# Altium footprint library TRS3122.PcbLib: 1 footprints
Each footprint in its own frame and in the unit in brackets; x right, y up, seen from the top. Pads: shape width x height; smd on the part's side, far side on the other; paste and mask are expansions set on the pad; w line width, h text height; cw(c..) or ccw(c..) is an arc to the next point about the centre after c.
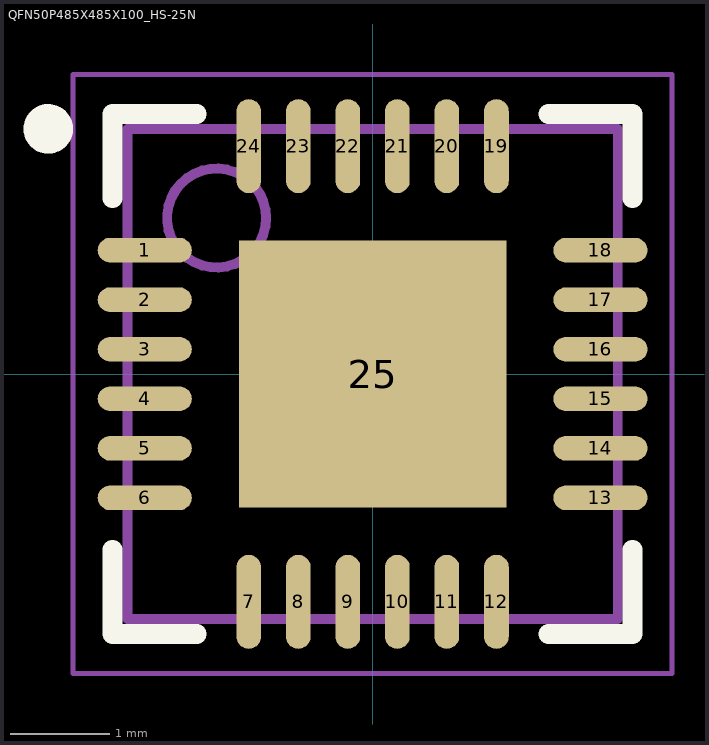
[diagram p0: the footprint, top view; thin cyan lines are the x and y axes]

## QFN50P485X485X100_HS-25N [mm] "QFN, 24-Leads, Body 4.85x4.85mm, Pitch 0.50mm, Thermal Pad 2.70x2.70mm, IPC Medium Density"
height 1
pads (25):
  oval 0.95x0.25 smd: 1(-2.3,1.25) 2(-2.3,0.75) 3(-2.3,0.25) 4(-2.3,-0.25) 5(-2.3,-0.75) 6(-2.3,-1.25) 13(2.3,-1.25) 14(2.3,-0.75) 15(2.3,-0.25) 16(2.3,0.25) 17(2.3,0.75) 18(2.3,1.25)
  oval 0.25x0.95 smd: 7(-1.25,-2.3) 8(-0.75,-2.3) 9(-0.25,-2.3) 10(0.25,-2.3) 11(0.75,-2.3) 12(1.25,-2.3) 19(1.25,2.3) 20(0.75,2.3) 21(0.25,2.3) 22(-0.25,2.3) 23(-0.75,2.3) 24(-1.25,2.3)
  rect 2.7x2.7 smd: 25(0,0)
Top Overlay:
  circle w0.25: c-3.275,2.475 r0.125
  lines w0.2: -2.625,-1.775 -2.625,-2.625 -1.775,-2.625 ; -2.625,1.775 -2.625,2.625 -1.775,2.625 ; 1.775,-2.625 2.625,-2.625 2.625,-1.775 ; 1.775,2.625 2.625,2.625 2.625,1.775
Mechanical 13:
  circle w0.1: c-1.575,1.575 r0.5
  lines w0.1: -2.475,-2.475 -2.475,2.475 2.475,2.475 2.475,-2.475 -2.475,-2.475
Mechanical 15:
  lines w0.05: -3.025,-3.025 -3.025,3.025 3.025,3.025 3.025,-3.025 -3.025,-3.025
  lines w0.1: -0.5,0 0.5,0 ; 0,-0.5 0,0.5
3D body: height 1, standoff 0.01, extent -2.475,-2.475 2.475,2.475